# Altium schematic symbol library CONN2x5.Schlib: 1 symbol
Pins are listed as number, name and electrical type; pins without a type are passive.

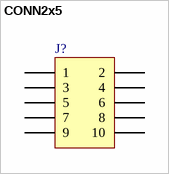
[diagram p0: symbol CONN2x5]

## CONN2x5
designator J?
Connector, 5-Pin, Dual row
signal-integrity model Connector
pins: 1, 2, 3, 4, 5, 6, 7, 8, 9, 10
2 alternate drawings of the same symbol